# Altium schematic symbol library Schlib1.SchLib: 1 symbol
Pins are listed as number, name and electrical type; pins without a type are passive.

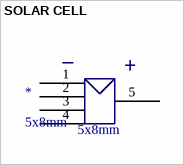
[diagram p0: symbol SOLAR CELL]

## SOLAR CELL
designator *, comment 5x8mm
Manufacturer: Yim Space; PDM Number: SC-3GA-3
footprint SOLAR_CELL
pins: 1 V+ (power), 2 V- (power), 3, 4, 5
text: _; +